# Altium footprint library RESC - RESistorChip.PcbLib: 41 footprints (part 2 of 3)
Each footprint in its own frame and in the unit in brackets; x right, y up, seen from the top. Pads: shape width x height; smd on the part's side, far side on the other; paste and mask are expansions set on the pad; w line width, h text height; cw(c..) or ccw(c..) is an arc to the next point about the centre after c.
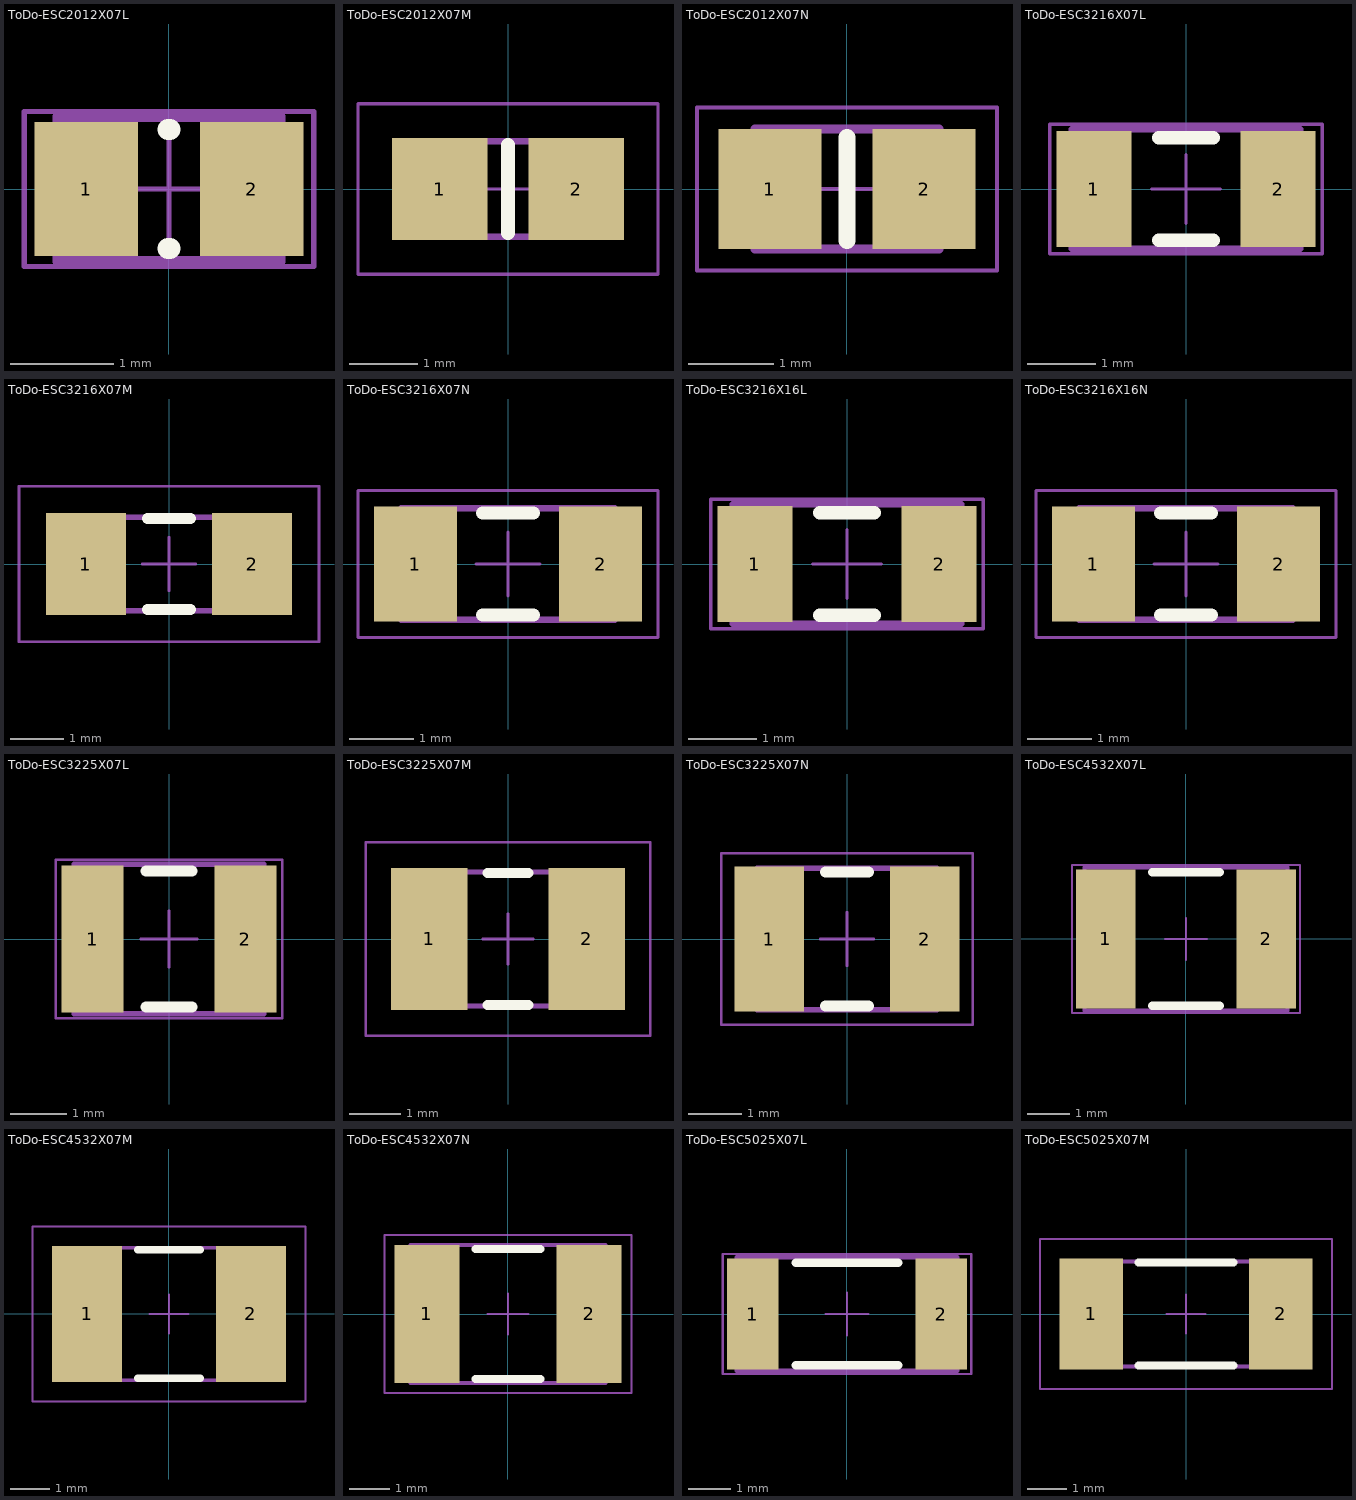
[diagram p1: the footprints below, top view; thin cyan lines are the x and y axes]

## ToDo-ESC2012X07L [mm] "Chip Resistor, Body 2.0x1.3mm, IPC High Density, EIA 0805"
height 0.65
pads (2):
  rect 1x1.3 smd: 1(-0.8,0) 2(0.8,0)
Top Overlay:
  lines w0.2: -0.01,-0.575 0.01,-0.575 ; -0.01,0.575 0.01,0.575
TopBody:
  lines w0.1: -1.075,-0.7 -1.075,0.7 1.075,0.7 1.075,-0.7 -1.075,-0.7
TopCourtyard:
  lines w0.05: -0.5,0 0.5,0 ; 0,-0.5 0,0.5 ; -1.4,-0.75 -1.4,0.75 1.4,0.75 1.4,-0.75 -1.4,-0.75
3D body: height 0.65, standoff 0, extent -1.075,-0.7 1.075,0.7

## ToDo-ESC2012X07M [mm] "Chip Resistor, Body 2.0x1.3mm, IPC Low Density, EIA 0805"
height 0.65
pads (2):
  rect 1.4x1.5 smd: 1(-1,0) 2(1,0)
Top Overlay:
  lines w0.2: 0,-0.65 0,0.65
TopBody:
  lines w0.1: -1.075,-0.7 1.075,-0.7 1.075,0.7 -1.075,0.7 -1.075,-0.7
TopCourtyard:
  lines w0.05: -0.5,0 0.5,0 ; 0,-0.5 0,0.5 ; -2.2,-1.25 2.2,-1.25 2.2,1.25 -2.2,1.25 -2.2,-1.25
3D body: height 0.65, standoff 0, extent -1.075,-0.7 1.075,0.7

## ToDo-ESC2012X07N [mm] "Chip Resistor, Body 2.0x1.3mm, IPC Medium Density, EIA 0805"
height 0.65
pads (2):
  rect 1.2x1.4 smd: 1(-0.9,0) 2(0.9,0)
Top Overlay:
  lines w0.2: 0,-0.6 0,0.6
TopBody:
  lines w0.1: -1.075,-0.7 1.075,-0.7 1.075,0.7 -1.075,0.7 -1.075,-0.7
TopCourtyard:
  lines w0.05: -0.5,0 0.5,0 ; 0,-0.5 0,0.5 ; -1.75,-0.95 1.75,-0.95 1.75,0.95 -1.75,0.95 -1.75,-0.95
3D body: height 0.65, standoff 0, extent -1.075,-0.7 1.075,0.7

## ToDo-ESC3216X07L [mm] "Chip Resistor, Body 3.2x1.6mm, IPC High Density, EIA 1206"
height 0.7
pads (2):
  rect 1.1x1.7 smd: 1(-1.35,0) 2(1.35,0)
Top Overlay:
  lines w0.2: -0.4,-0.75 0.4,-0.75 ; -0.4,0.75 0.4,0.75
TopBody:
  lines w0.1: -1.675,-0.875 1.675,-0.875 1.675,0.875 -1.675,0.875 -1.675,-0.875
TopCourtyard:
  lines w0.05: -0.5,0 0.5,0 ; 0,-0.5 0,0.5 ; -2,-0.95 2,-0.95 2,0.95 -2,0.95 -2,-0.95
3D body: height 0.7, standoff 0, extent -1.675,-0.875 1.675,0.875

## ToDo-ESC3216X07M [mm] "Chip Resistor, Body 3.2x1.6mm, IPC Low Density, EIA 1206"
height 0.71
pads (2):
  rect 1.5x1.9 smd: 1(-1.55,0) 2(1.55,0)
Top Overlay:
  lines w0.2: -0.4,-0.85 0.4,-0.85 ; -0.4,0.85 0.4,0.85
TopBody:
  lines w0.1: -1.675,-0.875 1.675,-0.875 1.675,0.875 -1.675,0.875 -1.675,-0.875
TopCourtyard:
  lines w0.05: -0.5,0 0.5,0 ; 0,-0.5 0,0.5 ; -2.8,-1.45 2.8,-1.45 2.8,1.45 -2.8,1.45 -2.8,-1.45
3D body: height 0.71, standoff 0, extent -1.675,-0.875 1.675,0.875

## ToDo-ESC3216X07N [mm] "Chip Resistor, Body 3.2x1.6mm, IPC Medium Density, EIA 1206"
height 0.71
pads (2):
  rect 1.3x1.8 smd: 1(-1.45,0) 2(1.45,0)
Top Overlay:
  lines w0.2: -0.4,-0.8 0.4,-0.8 ; -0.4,0.8 0.4,0.8
TopBody:
  lines w0.1: -1.675,-0.875 1.675,-0.875 1.675,0.875 -1.675,0.875 -1.675,-0.875
TopCourtyard:
  lines w0.05: -0.5,0 0.5,0 ; 0,-0.5 0,0.5 ; -2.35,-1.15 2.35,-1.15 2.35,1.15 -2.35,1.15 -2.35,-1.15
3D body: height 0.71, standoff 0, extent -1.675,-0.875 1.675,0.875

## ToDo-ESC3216X16L [mm] "Chip Resistor, Body 3.2x1.6mm, IPC High Density"
height 1.6
pads (2):
  rect 1.1x1.7 smd: 1(-1.35,0) 2(1.35,0)
Top Overlay:
  lines w0.2: -0.4,-0.75 0.4,-0.75 ; -0.4,0.75 0.4,0.75
TopBody:
  lines w0.1: -1.675,-0.875 -1.675,0.875 1.675,0.875 1.675,-0.875 -1.675,-0.875
TopCourtyard:
  lines w0.05: -0.5,0 0.5,0 ; 0,-0.5 0,0.5 ; -2,-0.95 -2,0.95 2,0.95 2,-0.95 -2,-0.95
3D body: height 1.6, standoff 0, extent -1.675,-0.875 1.675,0.875

## ToDo-ESC3216X16N [mm] "Chip Resistor, Body 3.2x1.6mm, IPC Medium Density"
height 1.6
pads (2):
  rect 1.3x1.8 smd: 1(-1.45,0) 2(1.45,0)
Top Overlay:
  lines w0.2: -0.4,-0.8 0.4,-0.8 ; -0.4,0.8 0.4,0.8
TopBody:
  lines w0.1: -1.675,-0.875 -1.675,0.875 1.675,0.875 1.675,-0.875 -1.675,-0.875
TopCourtyard:
  lines w0.05: -0.5,0 0.5,0 ; 0,-0.5 0,0.5 ; -2.35,-1.15 -2.35,1.15 2.35,1.15 2.35,-1.15 -2.35,-1.15
3D body: height 1.6, standoff 0, extent -1.675,-0.875 1.675,0.875

## ToDo-ESC3225X07L [mm] "Chip Resistor, Body 3.2x2.5mm, IPC High Density, EIA 1210"
height 0.7
pads (2):
  rect 1.1x2.6 smd: 1(-1.35,0) 2(1.35,0)
Top Overlay:
  lines w0.2: -0.4,-1.2 0.4,-1.2 ; -0.4,1.2 0.4,1.2
TopBody:
  lines w0.1: -1.675,-1.32 -1.675,1.32 1.675,1.32 1.675,-1.32 -1.675,-1.32
TopCourtyard:
  lines w0.05: -0.5,0 0.5,0 ; 0,-0.5 0,0.5 ; -2,-1.4 -2,1.4 2,1.4 2,-1.4 -2,-1.4
3D body: height 0.7, standoff 0, extent -1.675,-1.32 1.675,1.32

## ToDo-ESC3225X07M [mm] "Chip Resistor, Body 3.2x2.5mm, IPC Low Density, EIA 1210"
height 0.71
pads (2):
  rect 1.5x2.8 smd: 1(-1.55,0) 2(1.55,0)
Top Overlay:
  lines w0.2: -0.4,-1.3 0.4,-1.3 ; -0.4,1.3 0.4,1.3
TopBody:
  lines w0.1: -1.675,-1.32 -1.675,1.32 1.675,1.32 1.675,-1.32 -1.675,-1.32
TopCourtyard:
  lines w0.05: -0.5,0 0.5,0 ; 0,-0.5 0,0.5 ; -2.8,-1.9 -2.8,1.9 2.8,1.9 2.8,-1.9 -2.8,-1.9
3D body: height 0.71, standoff 0, extent -1.675,-1.32 1.675,1.32

## ToDo-ESC3225X07N [mm] "Chip Resistor, Body 3.2x2.5mm, IPC Medium Density, EIA 1210"
height 0.71
pads (2):
  rect 1.3x2.7 smd: 1(-1.45,0) 2(1.45,0)
Top Overlay:
  lines w0.2: -0.4,-1.25 0.4,-1.25 ; -0.4,1.25 0.4,1.25
TopBody:
  lines w0.1: -1.675,-1.32 1.675,-1.32 1.675,1.32 -1.675,1.32 -1.675,-1.32
TopCourtyard:
  lines w0.05: -0.5,0 0.5,0 ; 0,-0.5 0,0.5 ; -2.35,-1.6 2.35,-1.6 2.35,1.6 -2.35,1.6 -2.35,-1.6
3D body: height 0.71, standoff 0, extent -1.675,-1.32 1.675,1.32

## ToDo-ESC4532X07L [mm] "Chip Resistor, Body 4.5x3.2mm, IPC High Density, EIA1812"
height 0.7
pads (2):
  rect 1.4x3.3 smd: 1(-1.9,0) 2(1.9,0)
Top Overlay:
  lines w0.2: -0.8,-1.575 0.8,-1.575 ; -0.8,1.575 0.8,1.575
TopBody:
  lines w0.1: -2.4,-1.7 2.4,-1.7 2.4,1.7 -2.4,1.7 -2.4,-1.7
TopCourtyard:
  lines w0.05: -0.5,0 0.5,0 ; 0,-0.5 0,0.5 ; -2.7,-1.75 2.7,-1.75 2.7,1.75 -2.7,1.75 -2.7,-1.75
3D body: height 0.7, standoff 0, extent -2.4,-1.7 2.4,1.7

## ToDo-ESC4532X07M [mm] "Chip Resistor, Body 4.5x3.2mm, IPC Low Density, EIA1812"
height 0.71
pads (2):
  rect 1.8x3.5 smd: 1(-2.1,0) 2(2.1,0)
Top Overlay:
  lines w0.2: -0.8,-1.65 0.8,-1.65 ; -0.8,1.65 0.8,1.65
TopBody:
  lines w0.1: -2.4,-1.7 -2.4,1.7 2.4,1.7 2.4,-1.7 -2.4,-1.7
TopCourtyard:
  lines w0.05: -0.5,0 0.5,0 ; 0,-0.5 0,0.5 ; -3.5,-2.25 -3.5,2.25 3.5,2.25 3.5,-2.25 -3.5,-2.25
3D body: height 0.71, standoff 0, extent -2.4,-1.7 2.4,1.7

## ToDo-ESC4532X07N [mm] "Chip Resistor, Body 4.5x3.2mm, IPC Medium Density, EIA1812"
height 0.71
pads (2):
  rect 1.6x3.4 smd: 1(-2,0) 2(2,0)
Top Overlay:
  lines w0.2: -0.8,-1.6 0.8,-1.6 ; -0.8,1.6 0.8,1.6
TopBody:
  lines w0.1: -2.4,-1.7 2.4,-1.7 2.4,1.7 -2.4,1.7 -2.4,-1.7
TopCourtyard:
  lines w0.05: -0.5,0 0.5,0 ; 0,-0.5 0,0.5 ; -3.05,-1.95 3.05,-1.95 3.05,1.95 -3.05,1.95 -3.05,-1.95
3D body: height 0.71, standoff 0, extent -2.4,-1.7 2.4,1.7

## ToDo-ESC5025X07L [mm] "Chip Resistor, Body 5.0x2.5mm, IPC High Density, EIA 2010"
height 0.7
pads (2):
  rect 1.2x2.6 smd: 1(-2.2,0) 2(2.2,0)
Top Overlay:
  lines w0.2: -1.2,-1.2 1.2,-1.2 ; -1.2,1.2 1.2,1.2
TopBody:
  lines w0.1: -2.575,-1.325 -2.575,1.325 2.575,1.325 2.575,-1.325 -2.575,-1.325
TopCourtyard:
  lines w0.05: -0.5,0 0.5,0 ; 0,-0.5 0,0.5 ; -2.9,-1.4 -2.9,1.4 2.9,1.4 2.9,-1.4 -2.9,-1.4
3D body: height 0.7, standoff 0, extent -2.575,-1.325 2.575,1.325

## ToDo-ESC5025X07M [mm] "Chip Resistor, Body 5.0x2.5mm, IPC Low Density, EIA 2010"
height 0.71
pads (2):
  rect 1.6x2.8 smd: 1(-2.4,0) 2(2.4,0)
Top Overlay:
  lines w0.2: -1.2,-1.3 1.2,-1.3 ; -1.2,1.3 1.2,1.3
TopBody:
  lines w0.1: -2.575,-1.325 -2.575,1.325 2.575,1.325 2.575,-1.325 -2.575,-1.325
TopCourtyard:
  lines w0.05: -0.5,0 0.5,0 ; 0,-0.5 0,0.5 ; -3.7,-1.9 -3.7,1.9 3.7,1.9 3.7,-1.9 -3.7,-1.9
3D body: height 0.71, standoff 0, extent -2.575,-1.325 2.575,1.325